# EAGLE library part CM1213-08MR (library BMSafeMasterIO)
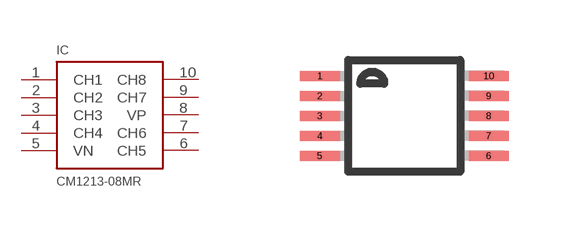
[diagram p1: symbol with the pads of MSOP10; footprint MSOP10]

Designator prefix IC

## CM1213-08MR  [MSOP10]
1  CH1
2  CH2
3  CH3
4  CH4
5  VN
6  CH5
7  CH6
8  VP
9  CH7
10  CH8

## Footprint MSOP10 (pad centres in mm)
smd 1 x 0.25: 1 -2.113,1; 2 -2.113,0.5; 3 -2.113,0; 4 -2.113,-0.5; 5 -2.113,-1; 6 2.113,-1; 7 2.113,-0.5; 8 2.113,0; 9 2.113,0.5; 10 2.113,1